# Altium footprint library QFN50P250X450X100_HS-21N.PcbLib: 1 footprints
Each footprint in its own frame and in the unit in brackets; x right, y up, seen from the top. Pads: shape width x height; smd on the part's side, far side on the other; paste and mask are expansions set on the pad; w line width, h text height; cw(c..) or ccw(c..) is an arc to the next point about the centre after c.
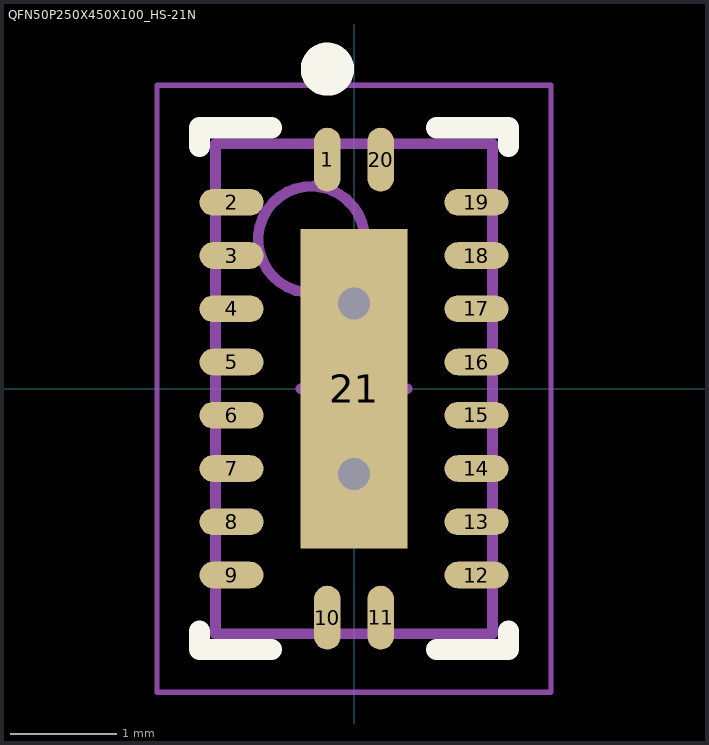
[diagram p0: the footprint, top view; thin cyan lines are the x and y axes]

## QFN50P250X450X100_HS-21N [mm] "QFN, 20-Leads, Body 2.50x4.50mm, Pitch 0.50mm, Thermal Pad 1.00x3.00mm, IPC Medium Density"
height 1
pads (21):
  oval 0.25x0.6 smd: 1(-0.25,2.15) 10(-0.25,-2.15) 11(0.25,-2.15) 20(0.25,2.15)
  oval 0.6x0.25 smd: 2(-1.15,1.75) 3(-1.15,1.25) 4(-1.15,0.75) 5(-1.15,0.25) 6(-1.15,-0.25) 7(-1.15,-0.75) 8(-1.15,-1.25) 9(-1.15,-1.75) 12(1.15,-1.75) 13(1.15,-1.25) 14(1.15,-0.75) 15(1.15,-0.25) 16(1.15,0.25) 17(1.15,0.75) 18(1.15,1.25) 19(1.15,1.75)
  rect 1x3 smd: 21(0,0)
via 0,0.8 diameter 0.6 hole 0.3
via 0,-0.8 diameter 0.6 hole 0.3
Top Overlay:
  circle w0.25: c-0.25,3 r0.125
  lines w0.2: -1.45,-2.275 -1.45,-2.45 -0.775,-2.45 ; -1.45,2.275 -1.45,2.45 -0.775,2.45 ; 0.775,-2.45 1.45,-2.45 1.45,-2.275 ; 0.775,2.45 1.45,2.45 1.45,2.275
Top Assembly:
  circle w0.1: c-0.4,1.4 r0.5
  lines w0.1: -1.3,-2.3 1.3,-2.3 1.3,2.3 -1.3,2.3 -1.3,-2.3
Top Courtyard:
  lines w0.05: -1.85,-2.85 1.85,-2.85 1.85,2.85 -1.85,2.85 -1.85,-2.85
  lines w0.1: -0.5,0 0.5,0 ; 0,-0.5 0,0.5
3D body "QFN50P250X450X100_HS-21N.step": height 1, standoff 0, extent -1.35,-2.35 1.35,2.35